# EAGLE library part XCV3200E_FG1156 (library xilinx-xcv)
xcv3200e_fg1156 edit this description Auto generated by make-symbol-device-package-bsdl.ulp Rev. 26 Source: xcv3200e_fg1156.bsd
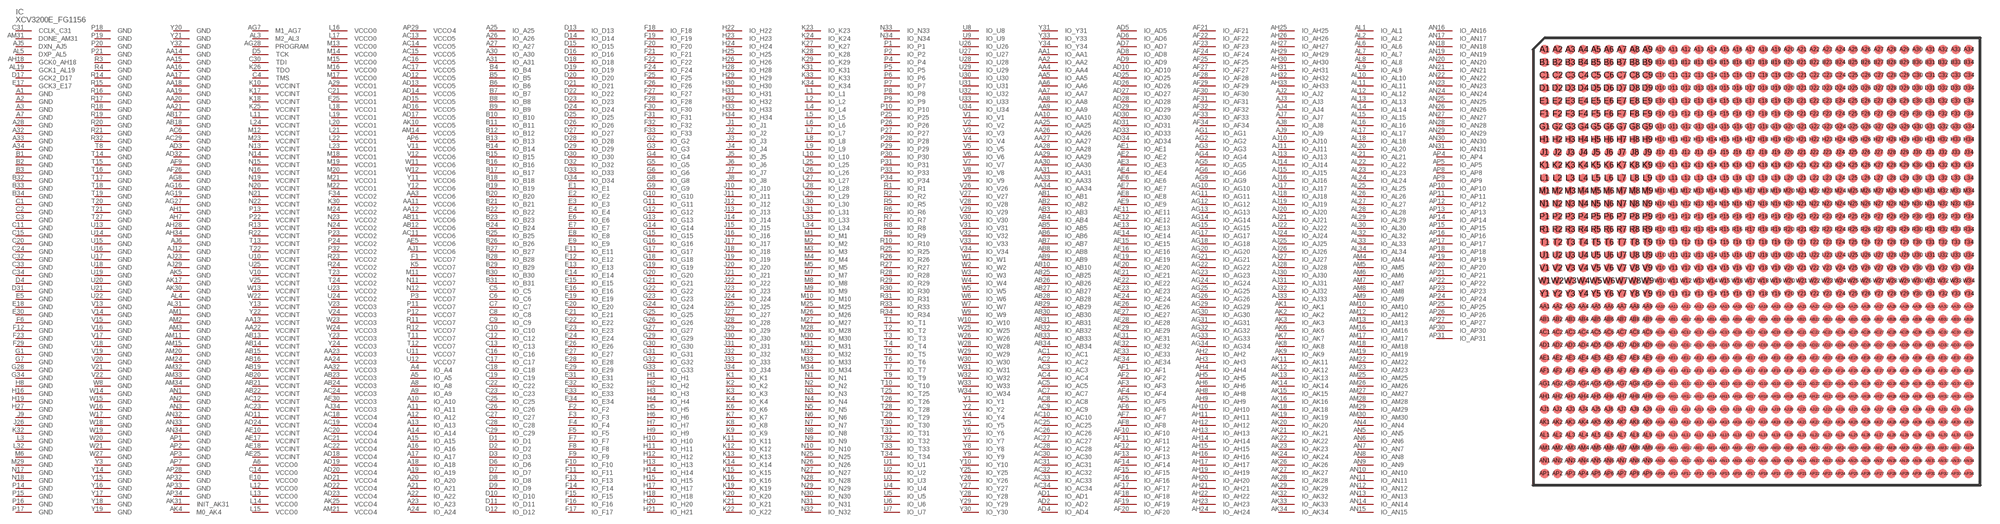
[diagram p141: symbol with the pads of FG1156; footprint FG1156]

Designator prefix IC

## XCV3200E_FG1156  [FG1156]
A1  GND  pwr
A2  GND  pwr
A3  GND  pwr
A4  IO_A4
A5  IO_A5
A6  VCCO0  pwr
A7  GND  pwr
A8  IO_A8
A9  IO_A9
A10  IO_A10
A11  IO_A11
A12  IO_A12
A13  IO_A13
A14  IO_A14
A15  IO_A15
A16  IO_A16
A17  IO_A17
A18  IO_A18
A19  IO_A19
A20  IO_A20
A21  IO_A21
A22  IO_A22
A23  IO_A23
A24  IO_A24
A25  IO_A25
A26  IO_A26
A27  IO_A27
A28  GND  pwr
A29  VCCO1  pwr
A30  IO_A30
A31  IO_A31
A32  GND  pwr
A33  GND  pwr
A34  GND  pwr
AA1  IO_AA1
AA2  IO_AA2
AA3  VCCO6  pwr
AA4  IO_AA4
AA5  IO_AA5
AA6  IO_AA6
AA7  IO_AA7
AA8  IO_AA8
AA9  IO_AA9
AA10  IO_AA10
AA11  VCCO6  pwr
AA12  VCCO6  pwr
AA13  VCCINT  pwr
AA14  GND  pwr
AA15  GND  pwr
AA16  GND  pwr
AA17  GND  pwr
AA18  GND  pwr
AA19  GND  pwr
AA20  GND  pwr
AA21  GND  pwr
AA22  VCCINT  pwr
AA23  VCCO3  pwr
AA24  VCCO3  pwr
AA25  IO_AA25
AA26  IO_AA26
AA27  IO_AA27
AA28  IO_AA28
AA29  IO_AA29
AA30  IO_AA30
AA31  IO_AA31
AA32  VCCO3  pwr
AA33  IO_AA33
AA34  IO_AA34
AB1  IO_AB1
AB2  IO_AB2
AB3  IO_AB3
AB4  IO_AB4
AB5  IO_AB5
AB6  IO_AB6
AB7  IO_AB7
AB8  IO_AB8
AB9  IO_AB9
AB10  IO_AB10
AB11  VCCO6  pwr
AB12  VCCO6  pwr
AB13  VCCINT  pwr
AB14  VCCINT  pwr
AB15  VCCINT  pwr
AB16  VCCINT  pwr
AB17  GND  pwr
AB18  GND  pwr
AB19  VCCINT  pwr
AB20  VCCINT  pwr
AB21  VCCINT  pwr
AB22  VCCINT  pwr
AB23  VCCO3  pwr
AB24  VCCO3  pwr
AB25  IO_AB25
AB26  IO_AB26
AB27  IO_AB27
AB28  IO_AB28
AB29  IO_AB29
AB30  IO_AB30
AB31  IO_AB31
AB32  IO_AB32
AB33  IO_AB33
AB34  IO_AB34
AC1  IO_AC1
AC2  IO_AC2
AC3  IO_AC3
AC4  IO_AC4
AC5  IO_AC5
AC6  GND  pwr
AC7  IO_AC7
AC8  IO_AC8
AC9  IO_AC9
AC10  IO_AC10
AC11  VCCO6  pwr
AC12  VCCINT  pwr
AC13  VCCO5  pwr
AC14  VCCO5  pwr
AC15  VCCO5  pwr
AC16  VCCO5  pwr
AC17  VCCO5  pwr
AC18  VCCO4  pwr
AC19  VCCO4  pwr
AC20  VCCO4  pwr
AC21  VCCO4  pwr
AC22  VCCO4  pwr
AC23  VCCINT  pwr
AC24  VCCO3  pwr
AC25  IO_AC25
AC26  IO_AC26
AC27  IO_AC27
AC28  IO_AC28
AC29  GND  pwr
AC30  IO_AC30
AC31  IO_AC31
AC32  IO_AC32
AC33  IO_AC33
AC34  IO_AC34
AD1  IO_AD1
AD2  IO_AD2
AD3  GND  pwr
AD4  IO_AD4
AD5  IO_AD5
AD6  IO_AD6
AD7  IO_AD7
AD8  IO_AD8
AD9  IO_AD9
AD10  IO_AD10
AD11  VCCINT  pwr
AD12  VCCO5  pwr
AD13  VCCO5  pwr
AD14  VCCO5  pwr
AD15  VCCO5  pwr
AD16  VCCO5  pwr
AD17  VCCO5  pwr
AD18  VCCO4  pwr
AD19  VCCO4  pwr
AD20  VCCO4  pwr
AD21  VCCO4  pwr
AD22  VCCO4  pwr
AD23  VCCO4  pwr
AD24  VCCINT  pwr
AD25  IO_AD25
AD26  IO_AD26
AD27  IO_AD27
AD28  IO_AD28
AD29  IO_AD29
AD30  IO_AD30
AD31  IO_AD31
AD32  GND  pwr
AD33  IO_AD33
AD34  IO_AD34
AE1  IO_AE1
AE2  IO_AE2
AE3  IO_AE3
AE4  IO_AE4
AE5  VCCO6  pwr
AE6  IO_AE6
AE7  IO_AE7
AE8  IO_AE8
AE9  IO_AE9
AE10  VCCINT  pwr
AE11  IO_AE11
AE12  IO_AE12
AE13  IO_AE13
AE14  IO_AE14
AE15  IO_AE15
AE16  IO_AE16
AE17  VCCINT  pwr
AE18  VCCINT  pwr
AE19  IO_AE19
AE20  IO_AE20
AE21  IO_AE21
AE22  IO_AE22
AE23  IO_AE23
AE24  IO_AE24
AE25  VCCINT  pwr
AE26  IO_AE26
AE27  IO_AE27
AE28  IO_AE28
AE29  IO_AE29
AE30  VCCO3  pwr
AE31  IO_AE31
AE32  IO_AE32
AE33  IO_AE33
AE34  IO_AE34
AF1  IO_AF1
AF2  IO_AF2
AF3  IO_AF3
AF4  IO_AF4
AF5  IO_AF5
AF6  IO_AF6
AF7  IO_AF7
AF8  IO_AF8
AF9  GND  pwr
AF10  IO_AF10
AF11  IO_AF11
AF12  IO_AF12
AF13  IO_AF13
AF14  IO_AF14
AF15  IO_AF15
AF16  IO_AF16
AF17  IO_AF17
AF18  IO_AF18
AF19  IO_AF19
AF20  IO_AF20
AF21  IO_AF21
AF22  IO_AF22
AF23  IO_AF23
AF24  IO_AF24
AF25  IO_AF25
AF26  GND  pwr
AF27  IO_AF27
AF28  IO_AF28
AF29  IO_AF29
AF30  IO_AF30
AF31  IO_AF31
AF32  IO_AF32
AF33  IO_AF33
AF34  IO_AF34
AG1  IO_AG1
AG2  IO_AG2
AG3  IO_AG3
AG4  IO_AG4
AG5  IO_AG5
AG6  IO_AG6
AG7  M1_AG7  in
AG8  GND  pwr
AG9  IO_AG9
AG10  IO_AG10
AG11  IO_AG11
AG12  IO_AG12
AG13  IO_AG13
AG14  IO_AG14
AG15  IO_AG15
AG16  GND  pwr
AG17  IO_AG17
AG18  IO_AG18
AG19  GND  pwr
AG20  IO_AG20
AG21  IO_AG21
AG22  IO_AG22
AG23  IO_AG23
AG24  IO_AG24
AG25  IO_AG25
AG26  IO_AG26
AG27  GND  pwr
AG28  PROGRAM  in
AG29  IO_AG29
AG30  IO_AG30
AG31  IO_AG31
AG32  IO_AG32
AG33  IO_AG33
AG34  IO_AG34
AH1  GND  pwr
AH2  IO_AH2
AH3  IO_AH3
AH4  IO_AH4
AH5  IO_AH5
AH6  IO_AH6
AH7  GND  pwr
AH8  IO_AH8
AH9  IO_AH9
AH10  IO_AH10
AH11  IO_AH11
AH12  IO_AH12
AH13  IO_AH13
AH14  IO_AH14
AH15  IO_AH15
AH16  IO_AH16
AH17  IO_AH17
AH18  GCK0_AH18  in
AH19  IO_AH19
AH20  IO_AH20
AH21  IO_AH21
AH22  IO_AH22
AH23  IO_AH23
AH24  IO_AH24
AH25  IO_AH25
AH26  IO_AH26
AH27  IO_AH27
AH28  GND  pwr
AH29  IO_AH29
AH30  IO_AH30
AH31  IO_AH31
AH32  IO_AH32
AH33  IO_AH33
AH34  GND  pwr
AJ1  VCCO6  pwr
AJ2  IO_AJ2
AJ3  IO_AJ3
AJ4  IO_AJ4
AJ5  DXN_AJ5  pas
AJ6  GND  pwr
AJ7  IO_AJ7
AJ8  IO_AJ8
AJ9  IO_AJ9
AJ10  IO_AJ10
AJ11  IO_AJ11
AJ12  GND  pwr
AJ13  IO_AJ13
AJ14  IO_AJ14
AJ15  IO_AJ15
AJ16  IO_AJ16
AJ17  IO_AJ17
AJ18  IO_AJ18
AJ19  IO_AJ19
AJ20  IO_AJ20
AJ21  IO_AJ21
AJ22  IO_AJ22
AJ23  GND  pwr
AJ24  IO_AJ24
AJ25  IO_AJ25
AJ26  IO_AJ26
AJ27  IO_AJ27
AJ28  IO_AJ28
AJ29  GND  pwr
AJ30  IO_AJ30
AJ31  IO_AJ31
AJ32  IO_AJ32
AJ33  IO_AJ33
AJ34  VCCO3  pwr
AK1  IO_AK1
AK2  IO_AK2
AK3  IO_AK3
AK4  M0_AK4  in
AK5  GND  pwr
AK6  IO_AK6
AK7  IO_AK7
AK8  IO_AK8
AK9  IO_AK9
AK10  VCCO5  pwr
AK11  IO_AK11
AK12  IO_AK12
AK13  IO_AK13
AK14  IO_AK14
AK15  IO_AK15
AK16  IO_AK16
AK17  GND  pwr
AK18  IO_AK18
AK19  IO_AK19
AK20  IO_AK20
AK21  IO_AK21
AK22  IO_AK22
AK23  IO_AK23
AK24  IO_AK24
AK25  VCCO4  pwr
AK26  IO_AK26
AK27  IO_AK27
AK28  IO_AK28
AK29  IO_AK29
AK30  GND  pwr
AK31  INIT_AK31
AK32  IO_AK32
AK33  IO_AK33
AK34  IO_AK34
AL1  IO_AL1
AL2  IO_AL2
AL3  M2_AL3  in
AL4  GND  pwr
AL5  DXP_AL5  pas
AL6  IO_AL6
AL7  IO_AL7
AL8  IO_AL8
AL9  IO_AL9
AL10  IO_AL10
AL11  IO_AL11
AL12  IO_AL12
AL13  IO_AL13
AL14  IO_AL14
AL15  IO_AL15
AL16  IO_AL16
AL17  IO_AL17
AL18  IO_AL18
AL19  GCK1_AL19  in
AL20  IO_AL20
AL21  IO_AL21
AL22  IO_AL22
AL23  IO_AL23
AL24  IO_AL24
AL25  IO_AL25
AL26  IO_AL26
AL27  IO_AL27
AL28  IO_AL28
AL29  IO_AL29
AL30  IO_AL30
AL31  GND  pwr
AL32  IO_AL32
AL33  IO_AL33
AL34  IO_AL34
AM1  GND  pwr
AM2  GND  pwr
AM3  GND  pwr
AM4  IO_AM4
AM5  IO_AM5
AM6  IO_AM6
AM7  IO_AM7
AM8  IO_AM8
AM9  IO_AM9
AM10  IO_AM10
AM11  GND  pwr
AM12  IO_AM12
AM13  IO_AM13
AM14  VCCO5  pwr
AM15  GND  pwr
AM16  IO_AM16
AM17  IO_AM17
AM18  IO_AM18
AM19  IO_AM19
AM20  GND  pwr
AM21  VCCO4  pwr
AM22  IO_AM22
AM23  IO_AM23
AM24  GND  pwr
AM25  IO_AM25
AM26  IO_AM26
AM27  IO_AM27
AM28  IO_AM28
AM29  IO_AM29
AM30  IO_AM30
AM31  DONE_AM31
AM32  GND  pwr
AM33  GND  pwr
AM34  GND  pwr
AN1  GND  pwr
AN2  GND  pwr
AN3  GND  pwr
AN4  IO_AN4
AN5  IO_AN5
AN6  IO_AN6
AN7  IO_AN7
AN8  IO_AN8
AN9  IO_AN9
AN10  IO_AN10
AN11  IO_AN11
AN12  IO_AN12
AN13  IO_AN13
AN14  IO_AN14
AN15  IO_AN15
AN16  IO_AN16
AN17  IO_AN17
AN18  IO_AN18
AN19  IO_AN19
AN20  IO_AN20
AN21  IO_AN21
AN22  IO_AN22
AN23  IO_AN23
AN24  IO_AN24
AN25  IO_AN25
AN26  IO_AN26
AN27  IO_AN27
AN28  IO_AN28
AN29  IO_AN29
AN30  IO_AN30
AN31  IO_AN31
AN32  GND  pwr
AN33  GND  pwr
AN34  GND  pwr
AP1  GND  pwr
AP2  GND  pwr
AP3  GND  pwr
AP4  IO_AP4
AP5  IO_AP5
AP6  VCCO5  pwr
AP7  GND  pwr
AP8  IO_AP8
AP9  IO_AP9
AP10  IO_AP10
AP11  IO_AP11
AP12  IO_AP12
AP13  IO_AP13
AP14  IO_AP14
AP15  IO_AP15
AP16  IO_AP16
AP17  IO_AP17
AP18  IO_AP18
AP19  IO_AP19
AP20  IO_AP20
AP21  IO_AP21
AP22  IO_AP22
AP23  IO_AP23
AP24  IO_AP24
AP25  IO_AP25
AP26  IO_AP26
AP27  IO_AP27
AP28  GND  pwr
AP29  VCCO4  pwr
AP30  IO_AP30
AP31  IO_AP31
AP32  GND  pwr
AP33  GND  pwr
AP34  GND  pwr
B1  GND  pwr
B2  GND  pwr
B3  GND  pwr
B4  IO_B4
B5  IO_B5
B6  IO_B6
B7  IO_B7
B8  IO_B8
B9  IO_B9
B10  IO_B10
B11  IO_B11
B12  IO_B12
B13  IO_B13
B14  IO_B14
B15  IO_B15
B16  IO_B16
B17  IO_B17
B18  IO_B18
B19  IO_B19
B20  IO_B20
B21  IO_B21
B22  IO_B22
B23  IO_B23
B24  IO_B24
B25  IO_B25
B26  IO_B26
B27  IO_B27
B28  IO_B28
B29  IO_B29
B30  IO_B30
B31  IO_B31
B32  GND  pwr
B33  GND  pwr
B34  GND  pwr
C1  GND  pwr
C2  GND  pwr
C3  GND  pwr
C4  TMS  in
C5  IO_C5
C6  IO_C6
C7  IO_C7
C8  IO_C8
C9  IO_C9
C10  IO_C10
C11  GND  pwr
C12  IO_C12
C13  IO_C13
C14  VCCO0  pwr
C15  GND  pwr
C16  IO_C16
C17  IO_C17
C18  IO_C18
C19  IO_C19
C20  GND  pwr
C21  VCCO1  pwr
C22  IO_C22
C23  IO_C23
C24  GND  pwr
C25  IO_C25
C26  IO_C26
C27  IO_C27
C28  IO_C28
C29  IO_C29
C30  TDI  in
C31  CCLK_C31
C32  GND  pwr
C33  GND  pwr
C34  GND  pwr
D1  IO_D1
D2  IO_D2
D3  IO_D3
D4  GND  pwr
D5  TCK  in
D6  IO_D6
D7  IO_D7
D8  IO_D8
D9  IO_D9
D10  IO_D10
D11  IO_D11
D12  IO_D12
D13  IO_D13
D14  IO_D14
D15  IO_D15
D16  IO_D16
D17  GCK2_D17  in
D18  IO_D18
D19  IO_D19
D20  IO_D20
D21  IO_D21
D22  IO_D22
D23  IO_D23
D24  IO_D24
D25  IO_D25
D26  IO_D26
D27  IO_D27
D28  IO_D28
D29  IO_D29
D30  IO_D30
D31  GND  pwr
D32  IO_D32
D33  IO_D33
D34  IO_D34
E1  IO_E1
E2  IO_E2
E3  IO_E3
E4  IO_E4
E5  GND  pwr
E6  IO_E6
E7  IO_E7
E8  IO_E8
E9  IO_E9
E10  VCCO0  pwr
E11  IO_E11
E12  IO_E12
E13  IO_E13
E14  IO_E14
E15  IO_E15
E16  IO_E16
E17  GCK3_E17  in
E18  GND  pwr
E19  IO_E19
E20  IO_E20
E21  IO_E21
E22  IO_E22
E23  IO_E23
E24  IO_E24
E25  VCCO1  pwr
E26  IO_E26
E27  IO_E27
E28  IO_E28
E29  IO_E29
E30  GND  pwr
E31  IO_E31
E32  IO_E32
E33  IO_E33
E34  IO_E34
F1  VCCO7  pwr
F2  IO_F2
F3  IO_F3
F4  IO_F4
F5  IO_F5
F6  GND  pwr
F7  IO_F7
F8  IO_F8
F9  IO_F9
F10  IO_F10
F11  IO_F11
F12  GND  pwr
F13  IO_F13
F14  IO_F14
F15  IO_F15
F16  IO_F16
F17  IO_F17
F18  IO_F18
F19  IO_F19
F20  IO_F20
F21  IO_F21
F22  IO_F22
F23  GND  pwr
F24  IO_F24
F25  IO_F25
F26  IO_F26
F27  IO_F27
F28  IO_F28
F29  GND  pwr
F30  IO_F30
F31  IO_F31
F32  IO_F32
F33  IO_F33
F34  VCCO2  pwr
G1  GND  pwr
G2  IO_G2
G3  IO_G3
G4  IO_G4
G5  IO_G5
G6  IO_G6
G7  GND  pwr
G8  IO_G8
G9  IO_G9
G10  IO_G10
G11  IO_G11
G12  IO_G12
G13  IO_G13
G14  IO_G14
G15  IO_G15
G16  IO_G16
G17  IO_G17
G18  IO_G18
G19  IO_G19
G20  IO_G20
G21  IO_G21
G22  IO_G22
G23  IO_G23
G24  IO_G24
G25  IO_G25
G26  IO_G26
G27  IO_G27
G28  GND  pwr
G29  IO_G29
G30  IO_G30
G31  IO_G31
G32  IO_G32
G33  IO_G33
G34  GND  pwr
H1  IO_H1
H2  IO_H2
H3  IO_H3
H4  IO_H4
H5  IO_H5
H6  IO_H6
H7  IO_H7
H8  GND  pwr
H9  IO_H9
H10  IO_H10
H11  IO_H11
H12  IO_H12
H13  IO_H13
H14  IO_H14
H15  IO_H15
H16  GND  pwr
H17  IO_H17
H18  IO_H18
H19  GND  pwr
H20  IO_H20
H21  IO_H21
H22  IO_H22
H23  IO_H23
H24  IO_H24
H25  IO_H25
H26  IO_H26
H27  GND  pwr
H28  IO_H28
H29  IO_H29
H30  IO_H30
H31  IO_H31
H32  IO_H32
H33  IO_H33
H34  IO_H34
J1  IO_J1
J2  IO_J2
J3  IO_J3
J4  IO_J4
J5  IO_J5
J6  IO_J6
J7  IO_J7
J8  IO_J8
J9  GND  pwr
J10  IO_J10
J11  IO_J11
J12  IO_J12
J13  IO_J13
J14  IO_J14
J15  IO_J15
J16  IO_J16
J17  IO_J17
J18  IO_J18
J19  IO_J19
J20  IO_J20
J21  IO_J21
J22  IO_J22
J23  IO_J23
J24  IO_J24
J25  IO_J25
J26  GND  pwr
J27  IO_J27
J28  IO_J28
J29  IO_J29
J30  IO_J30
J31  IO_J31
J32  IO_J32
J33  IO_J33
J34  IO_J34
K1  IO_K1
K2  IO_K2
K3  IO_K3
K4  IO_K4
K5  VCCO7  pwr
K6  IO_K6
K7  IO_K7
K8  IO_K8
K9  IO_K9
K10  VCCINT  pwr
K11  IO_K11
K12  IO_K12
K13  IO_K13
K14  IO_K14
K15  IO_K15
K16  IO_K16
K17  VCCINT  pwr
K18  VCCINT  pwr
K19  IO_K19
K20  IO_K20
K21  IO_K21
K22  IO_K22
K23  IO_K23
K24  IO_K24
K25  VCCINT  pwr
K26  TDO  out
K27  IO_K27
K28  IO_K28
K29  IO_K29
K30  VCCO2  pwr
K31  IO_K31
K32  GND  pwr
K33  IO_K33
K34  IO_K34
L1  IO_L1
L2  IO_L2
L3  GND  pwr
L4  IO_L4
L5  IO_L5
L6  IO_L6
L7  IO_L7
L8  IO_L8
L9  IO_L9
L10  IO_L10
L11  VCCINT  pwr
L12  VCCO0  pwr
L13  VCCO0  pwr
L14  VCCO0  pwr
L15  VCCO0  pwr
L16  VCCO0  pwr
L17  VCCO0  pwr
L18  VCCO1  pwr
L19  VCCO1  pwr
L20  VCCO1  pwr
L21  VCCO1  pwr
L22  VCCO1  pwr
L23  VCCO1  pwr
L24  VCCINT  pwr
L25  IO_L25
L26  IO_L26
L27  IO_L27
L28  IO_L28
L29  IO_L29
L30  IO_L30
L31  IO_L31
L32  GND  pwr
L33  IO_L33
L34  IO_L34
M1  IO_M1
M2  IO_M2
M3  IO_M3
M4  IO_M4
M5  IO_M5
M6  GND  pwr
M7  IO_M7
M8  IO_M8
M9  IO_M9
M10  IO_M10
M11  VCCO7  pwr
M12  VCCINT  pwr
M13  VCCO0  pwr
M14  VCCO0  pwr
M15  VCCO0  pwr
M16  VCCO0  pwr
M17  VCCO0  pwr
M18  VCCO1  pwr
M19  VCCO1  pwr
M20  VCCO1  pwr
M21  VCCO1  pwr
M22  VCCO1  pwr
M23  VCCINT  pwr
M24  VCCO2  pwr
M25  IO_M25
M26  IO_M26
M27  IO_M27
M28  IO_M28
M29  GND  pwr
M30  IO_M30
M31  IO_M31
M32  IO_M32
M33  IO_M33
M34  IO_M34
N1  IO_N1
N2  IO_N2
N3  IO_N3
N4  IO_N4
N5  IO_N5
N6  IO_N6
N7  IO_N7
N8  IO_N8
N9  IO_N9
N10  IO_N10
N11  VCCO7  pwr
N12  VCCO7  pwr
N13  VCCINT  pwr
N14  VCCINT  pwr
N15  VCCINT  pwr
N16  VCCINT  pwr
N17  GND  pwr
N18  GND  pwr
N19  VCCINT  pwr
N20  VCCINT  pwr
N21  VCCINT  pwr
N22  VCCINT  pwr
N23  VCCO2  pwr
N24  VCCO2  pwr
N25  IO_N25
N26  IO_N26
N27  IO_N27
N28  IO_N28
N29  IO_N29
N30  IO_N30
N31  IO_N31
N32  IO_N32
N33  IO_N33
N34  IO_N34
P1  IO_P1
P2  IO_P2
P3  VCCO7  pwr
P4  IO_P4
P5  IO_P5
P6  IO_P6
P7  IO_P7
P8  IO_P8
P9  IO_P9
P10  IO_P10
P11  VCCO7  pwr
P12  VCCO7  pwr
P13  VCCINT  pwr
P14  GND  pwr
P15  GND  pwr
P16  GND  pwr
P17  GND  pwr
P18  GND  pwr
P19  GND  pwr
P20  GND  pwr
P21  GND  pwr
P22  VCCINT  pwr
P23  VCCO2  pwr
P24  VCCO2  pwr
P25  IO_P25
P26  IO_P26
P27  IO_P27
P28  IO_P28
P29  IO_P29
P30  IO_P30
P31  IO_P31
P32  VCCO2  pwr
P33  IO_P33
P34  IO_P34
R1  IO_R1
R2  IO_R2
R3  GND  pwr
R4  GND  pwr
R5  IO_R5
R6  IO_R6
R7  IO_R7
R8  IO_R8
R9  IO_R9
R10  IO_R10
R11  VCCO7  pwr
R12  VCCO7  pwr
R13  VCCINT  pwr
R14  GND  pwr
R15  GND  pwr
R16  GND  pwr
R17  GND  pwr
R18  GND  pwr
R19  GND  pwr
R20  GND  pwr
R21  GND  pwr
R22  VCCINT  pwr
R23  VCCO2  pwr
R24  VCCO2  pwr
R25  IO_R25
R26  IO_R26
R27  IO_R27
R28  IO_R28
R29  IO_R29
R30  IO_R30
R31  IO_R31
R32  GND  pwr
R33  IO_R33
R34  IO_R34
T1  IO_T1
T2  IO_T2
T3  IO_T3
T4  IO_T4
T5  IO_T5
T6  IO_T6
T7  IO_T7
T8  GND  pwr
T9  IO_T9
T10  IO_T10
T11  VCCO7  pwr
T12  VCCO7  pwr
T13  VCCINT  pwr
T14  GND  pwr
T15  GND  pwr
T16  GND  pwr
T17  GND  pwr
T18  GND  pwr
T19  GND  pwr
T20  GND  pwr
T21  GND  pwr
T22  VCCINT  pwr
T23  VCCO2  pwr
T24  VCCO2  pwr
T25  IO_T25
T26  IO_T26
T27  GND  pwr
T28  IO_T28
T29  IO_T29
T30  IO_T30
T31  IO_T31
T32  IO_T32
T33  IO_T33
T34  IO_T34
U1  IO_U1
U2  IO_U2
U3  IO_U3
U4  IO_U4
U5  IO_U5
U6  IO_U6
U7  IO_U7
U8  IO_U8
U9  IO_U9
U10  VCCINT  pwr
U11  VCCO7  pwr
U12  VCCO7  pwr
U13  GND  pwr
U14  GND  pwr
U15  GND  pwr
U16  GND  pwr
U17  GND  pwr
U18  GND  pwr
U19  GND  pwr
U20  GND  pwr
U21  GND  pwr
U22  GND  pwr
U23  VCCO2  pwr
U24  VCCO2  pwr
U25  VCCINT  pwr
U26  IO_U26
U27  IO_U27
U28  IO_U28
U29  IO_U29
U30  IO_U30
U31  IO_U31
U32  IO_U32
U33  IO_U33
U34  IO_U34
V1  IO_V1
V2  IO_V2
V3  IO_V3
V4  IO_V4
V5  IO_V5
V6  IO_V6
V7  IO_V7
V8  IO_V8
V9  IO_V9
V10  VCCINT  pwr
V11  VCCO6  pwr
V12  VCCO6  pwr
V13  GND  pwr
V14  GND  pwr
V15  GND  pwr
V16  GND  pwr
V17  GND  pwr
V18  GND  pwr
V19  GND  pwr
V20  GND  pwr
V21  GND  pwr
V22  GND  pwr
V23  VCCO3  pwr
V24  VCCO3  pwr
V25  VCCINT  pwr
V26  IO_V26
V27  IO_V27
V28  IO_V28
V29  IO_V29
V30  IO_V30
V31  IO_V31
V32  IO_V32
V33  IO_V33
V34  IO_V34
W1  IO_W1
W2  IO_W2
W3  IO_W3
W4  IO_W4
W5  IO_W5
W6  IO_W6
W7  IO_W7
W8  GND  pwr
W9  IO_W9
W10  IO_W10
W11  VCCO6  pwr
W12  VCCO6  pwr
W13  VCCINT  pwr
W14  GND  pwr
W15  GND  pwr
W16  GND  pwr
W17  GND  pwr
W18  GND  pwr
W19  GND  pwr
W20  GND  pwr
W21  GND  pwr
W22  VCCINT  pwr
W23  VCCO3  pwr
W24  VCCO3  pwr
W25  IO_W25
W26  IO_W26
W27  GND  pwr
W28  IO_W28
W29  IO_W29
W30  IO_W30
W31  IO_W31
W32  IO_W32
W33  IO_W33
W34  IO_W34
Y1  IO_Y1
Y2  IO_Y2
Y3  GND  pwr
Y4  IO_Y4
Y5  IO_Y5
Y6  IO_Y6
Y7  IO_Y7
Y8  IO_Y8
Y9  IO_Y9
Y10  IO_Y10
Y11  VCCO6  pwr
Y12  VCCO6  pwr
Y13  VCCINT  pwr
Y14  GND  pwr
Y15  GND  pwr
Y16  GND  pwr
Y17  GND  pwr
Y18  GND  pwr
Y19  GND  pwr
Y20  GND  pwr
Y21  GND  pwr
Y22  VCCINT  pwr
Y23  VCCO3  pwr
Y24  VCCO3  pwr
Y25  IO_Y25
Y26  IO_Y26
Y27  IO_Y27
Y28  IO_Y28
Y29  IO_Y29
Y30  IO_Y30
Y31  IO_Y31
Y32  GND  pwr
Y33  IO_Y33
Y34  IO_Y34

## Footprint FG1156 (pad centres in mm)
xcv1000e_fg1156_1532 edit this description Auto generated by make-symbol-device-package-bsdl.ulp Rev. 26 Source: xcv1000e_fg1156_1532.bsd
smd 0.7 x 0.7: A1 -16.5,16.5; A2 -15.5,16.5; A3 -14.5,16.5; A4 -13.5,16.5; A5 -12.5,16.5; A6 -11.5,16.5; A7 -10.5,16.5; A8 -9.5,16.5; A9 -8.5,16.5; A10 -7.5,16.5; A11 -6.5,16.5; A12 -5.5,16.5; A13 -4.5,16.5; A14 -3.5,16.5; A15 -2.5,16.5; A16 -1.5,16.5; A17 -0.5,16.5; A18 0.5,16.5; A19 1.5,16.5; A20 2.5,16.5; A21 3.5,16.5; A22 4.5,16.5; A23 5.5,16.5; A24 6.5,16.5; A25 7.5,16.5; A26 8.5,16.5; A27 9.5,16.5; A28 10.5,16.5; A29 11.5,16.5; A30 12.5,16.5; A31 13.5,16.5; A32 14.5,16.5; A33 15.5,16.5; A34 16.5,16.5; AA1 -16.5,-3.5; AA2 -15.5,-3.5; AA3 -14.5,-3.5; AA4 -13.5,-3.5; AA5 -12.5,-3.5; AA6 -11.5,-3.5; AA7 -10.5,-3.5; AA8 -9.5,-3.5; AA9 -8.5,-3.5; AA10 -7.5,-3.5; AA11 -6.5,-3.5; AA12 -5.5,-3.5; AA13 -4.5,-3.5; AA14 -3.5,-3.5; AA15 -2.5,-3.5; AA16 -1.5,-3.5; AA17 -0.5,-3.5; AA18 0.5,-3.5; AA19 1.5,-3.5; AA20 2.5,-3.5; AA21 3.5,-3.5; AA22 4.5,-3.5; AA23 5.5,-3.5; AA24 6.5,-3.5; AA25 7.5,-3.5; AA26 8.5,-3.5; AA27 9.5,-3.5; AA28 10.5,-3.5; AA29 11.5,-3.5; AA30 12.5,-3.5; AA31 13.5,-3.5; AA32 14.5,-3.5; AA33 15.5,-3.5; AA34 16.5,-3.5; AB1 -16.5,-4.5; AB2 -15.5,-4.5; AB3 -14.5,-4.5; AB4 -13.5,-4.5; AB5 -12.5,-4.5; AB6 -11.5,-4.5; AB7 -10.5,-4.5; AB8 -9.5,-4.5; AB9 -8.5,-4.5; AB10 -7.5,-4.5; AB11 -6.5,-4.5; AB12 -5.5,-4.5; AB13 -4.5,-4.5; AB14 -3.5,-4.5; AB15 -2.5,-4.5; AB16 -1.5,-4.5; AB17 -0.5,-4.5; AB18 0.5,-4.5; AB19 1.5,-4.5; AB20 2.5,-4.5; AB21 3.5,-4.5; AB22 4.5,-4.5; AB23 5.5,-4.5; AB24 6.5,-4.5; AB25 7.5,-4.5; AB26 8.5,-4.5; AB27 9.5,-4.5; AB28 10.5,-4.5; AB29 11.5,-4.5; AB30 12.5,-4.5; AB31 13.5,-4.5; AB32 14.5,-4.5; AB33 15.5,-4.5; AB34 16.5,-4.5; AC1 -16.5,-5.5; AC2 -15.5,-5.5; AC3 -14.5,-5.5; AC4 -13.5,-5.5; AC5 -12.5,-5.5; AC6 -11.5,-5.5; AC7 -10.5,-5.5; AC8 -9.5,-5.5; AC9 -8.5,-5.5; AC10 -7.5,-5.5; AC11 -6.5,-5.5; AC12 -5.5,-5.5; AC13 -4.5,-5.5; AC14 -3.5,-5.5; AC15 -2.5,-5.5; AC16 -1.5,-5.5; AC17 -0.5,-5.5; AC18 0.5,-5.5; AC19 1.5,-5.5; AC20 2.5,-5.5; AC21 3.5,-5.5; AC22 4.5,-5.5; AC23 5.5,-5.5; AC24 6.5,-5.5; AC25 7.5,-5.5; AC26 8.5,-5.5; AC27 9.5,-5.5; AC28 10.5,-5.5; AC29 11.5,-5.5; AC30 12.5,-5.5; AC31 13.5,-5.5; AC32 14.5,-5.5; AC33 15.5,-5.5; AC34 16.5,-5.5; AD1 -16.5,-6.5; AD2 -15.5,-6.5; AD3 -14.5,-6.5; AD4 -13.5,-6.5; AD5 -12.5,-6.5; AD6 -11.5,-6.5; AD7 -10.5,-6.5; AD8 -9.5,-6.5; AD9 -8.5,-6.5; AD10 -7.5,-6.5; AD11 -6.5,-6.5; AD12 -5.5,-6.5; AD13 -4.5,-6.5; AD14 -3.5,-6.5; AD15 -2.5,-6.5; AD16 -1.5,-6.5; AD17 -0.5,-6.5; AD18 0.5,-6.5; AD19 1.5,-6.5; AD20 2.5,-6.5; AD21 3.5,-6.5; AD22 4.5,-6.5; AD23 5.5,-6.5; AD24 6.5,-6.5; AD25 7.5,-6.5; AD26 8.5,-6.5; AD27 9.5,-6.5; AD28 10.5,-6.5; AD29 11.5,-6.5; AD30 12.5,-6.5; AD31 13.5,-6.5; AD32 14.5,-6.5; AD33 15.5,-6.5; AD34 16.5,-6.5; AE1 -16.5,-7.5; AE2 -15.5,-7.5; AE3 -14.5,-7.5; AE4 -13.5,-7.5; AE5 -12.5,-7.5; AE6 -11.5,-7.5; AE7 -10.5,-7.5; AE8 -9.5,-7.5; AE9 -8.5,-7.5; AE10 -7.5,-7.5; AE11 -6.5,-7.5; AE12 -5.5,-7.5; AE13 -4.5,-7.5; AE14 -3.5,-7.5; AE15 -2.5,-7.5; AE16 -1.5,-7.5; AE17 -0.5,-7.5; AE18 0.5,-7.5; AE19 1.5,-7.5; AE20 2.5,-7.5; AE21 3.5,-7.5; AE22 4.5,-7.5; AE23 5.5,-7.5; AE24 6.5,-7.5; AE25 7.5,-7.5; AE26 8.5,-7.5; AE27 9.5,-7.5; AE28 10.5,-7.5; AE29 11.5,-7.5; AE30 12.5,-7.5; AE31 13.5,-7.5; AE32 14.5,-7.5; AE33 15.5,-7.5; AE34 16.5,-7.5; AF1 -16.5,-8.5; AF2 -15.5,-8.5; AF3 -14.5,-8.5; AF4 -13.5,-8.5; AF5 -12.5,-8.5; AF6 -11.5,-8.5; AF7 -10.5,-8.5; AF8 -9.5,-8.5; AF9 -8.5,-8.5; AF10 -7.5,-8.5; AF11 -6.5,-8.5; AF12 -5.5,-8.5; AF13 -4.5,-8.5; AF14 -3.5,-8.5; AF15 -2.5,-8.5; AF16 -1.5,-8.5; AF17 -0.5,-8.5; AF18 0.5,-8.5; AF19 1.5,-8.5; AF20 2.5,-8.5; AF21 3.5,-8.5; AF22 4.5,-8.5; AF23 5.5,-8.5; AF24 6.5,-8.5; AF25 7.5,-8.5; AF26 8.5,-8.5; AF27 9.5,-8.5; AF28 10.5,-8.5; AF29 11.5,-8.5; AF30 12.5,-8.5; AF31 13.5,-8.5; AF32 14.5,-8.5; AF33 15.5,-8.5; AF34 16.5,-8.5; AG1 -16.5,-9.5; AG2 -15.5,-9.5; AG3 -14.5,-9.5; AG4 -13.5,-9.5; AG5 -12.5,-9.5; AG6 -11.5,-9.5; AG7 -10.5,-9.5; AG8 -9.5,-9.5; AG9 -8.5,-9.5; AG10 -7.5,-9.5; AG11 -6.5,-9.5; AG12 -5.5,-9.5; AG13 -4.5,-9.5; AG14 -3.5,-9.5; AG15 -2.5,-9.5; AG16 -1.5,-9.5; AG17 -0.5,-9.5; AG18 0.5,-9.5; AG19 1.5,-9.5; AG20 2.5,-9.5; AG21 3.5,-9.5; AG22 4.5,-9.5; AG23 5.5,-9.5; AG24 6.5,-9.5; AG25 7.5,-9.5; AG26 8.5,-9.5; AG27 9.5,-9.5; AG28 10.5,-9.5; AG29 11.5,-9.5; AG30 12.5,-9.5; AG31 13.5,-9.5; AG32 14.5,-9.5; AG33 15.5,-9.5; AG34 16.5,-9.5; AH1 -16.5,-10.5; AH2 -15.5,-10.5; AH3 -14.5,-10.5; AH4 -13.5,-10.5; AH5 -12.5,-10.5; AH6 -11.5,-10.5; AH7 -10.5,-10.5; AH8 -9.5,-10.5; AH9 -8.5,-10.5; AH10 -7.5,-10.5; AH11 -6.5,-10.5; AH12 -5.5,-10.5; AH13 -4.5,-10.5; AH14 -3.5,-10.5; AH15 -2.5,-10.5; AH16 -1.5,-10.5; AH17 -0.5,-10.5; AH18 0.5,-10.5; AH19 1.5,-10.5; AH20 2.5,-10.5; AH21 3.5,-10.5; AH22 4.5,-10.5; AH23 5.5,-10.5; AH24 6.5,-10.5; AH25 7.5,-10.5; AH26 8.5,-10.5; AH27 9.5,-10.5; AH28 10.5,-10.5; AH29 11.5,-10.5; AH30 12.5,-10.5; AH31 13.5,-10.5; AH32 14.5,-10.5; AH33 15.5,-10.5; AH34 16.5,-10.5; AJ1 -16.5,-11.5; AJ2 -15.5,-11.5; AJ3 -14.5,-11.5; AJ4 -13.5,-11.5; AJ5 -12.5,-11.5; AJ6 -11.5,-11.5; AJ7 -10.5,-11.5; AJ8 -9.5,-11.5; AJ9 -8.5,-11.5; AJ10 -7.5,-11.5; AJ11 -6.5,-11.5; AJ12 -5.5,-11.5; AJ13 -4.5,-11.5; AJ14 -3.5,-11.5; AJ15 -2.5,-11.5; AJ16 -1.5,-11.5; AJ17 -0.5,-11.5; AJ18 0.5,-11.5; AJ19 1.5,-11.5; AJ20 2.5,-11.5; AJ21 3.5,-11.5; AJ22 4.5,-11.5; AJ23 5.5,-11.5; AJ24 6.5,-11.5; AJ25 7.5,-11.5; AJ26 8.5,-11.5; AJ27 9.5,-11.5; AJ28 10.5,-11.5; AJ29 11.5,-11.5; AJ30 12.5,-11.5; AJ31 13.5,-11.5; AJ32 14.5,-11.5; AJ33 15.5,-11.5; AJ34 16.5,-11.5; AK1 -16.5,-12.5; AK2 -15.5,-12.5; AK3 -14.5,-12.5; AK4 -13.5,-12.5; AK5 -12.5,-12.5; AK6 -11.5,-12.5; AK7 -10.5,-12.5; AK8 -9.5,-12.5; AK9 -8.5,-12.5; AK10 -7.5,-12.5; AK11 -6.5,-12.5; AK12 -5.5,-12.5; AK13 -4.5,-12.5; AK14 -3.5,-12.5; AK15 -2.5,-12.5; AK16 -1.5,-12.5; AK17 -0.5,-12.5; AK18 0.5,-12.5; AK19 1.5,-12.5; AK20 2.5,-12.5; AK21 3.5,-12.5; AK22 4.5,-12.5; AK23 5.5,-12.5; AK24 6.5,-12.5; AK25 7.5,-12.5; AK26 8.5,-12.5; AK27 9.5,-12.5; AK28 10.5,-12.5; AK29 11.5,-12.5; AK30 12.5,-12.5; AK31 13.5,-12.5; AK32 14.5,-12.5; AK33 15.5,-12.5; AK34 16.5,-12.5; AL1 -16.5,-13.5; AL2 -15.5,-13.5; AL3 -14.5,-13.5; AL4 -13.5,-13.5; AL5 -12.5,-13.5; AL6 -11.5,-13.5; AL7 -10.5,-13.5; AL8 -9.5,-13.5; AL9 -8.5,-13.5; AL10 -7.5,-13.5; AL11 -6.5,-13.5; AL12 -5.5,-13.5; AL13 -4.5,-13.5; AL14 -3.5,-13.5; AL15 -2.5,-13.5; AL16 -1.5,-13.5; AL17 -0.5,-13.5; AL18 0.5,-13.5; AL19 1.5,-13.5; AL20 2.5,-13.5; AL21 3.5,-13.5; AL22 4.5,-13.5; AL23 5.5,-13.5; AL24 6.5,-13.5; AL25 7.5,-13.5; AL26 8.5,-13.5; AL27 9.5,-13.5; AL28 10.5,-13.5; AL29 11.5,-13.5; AL30 12.5,-13.5; AL31 13.5,-13.5; AL32 14.5,-13.5; AL33 15.5,-13.5; AL34 16.5,-13.5; AM1 -16.5,-14.5; AM2 -15.5,-14.5; AM3 -14.5,-14.5; AM4 -13.5,-14.5; AM5 -12.5,-14.5; AM6 -11.5,-14.5; AM7 -10.5,-14.5; AM8 -9.5,-14.5; AM9 -8.5,-14.5; AM10 -7.5,-14.5; AM11 -6.5,-14.5; AM12 -5.5,-14.5; AM13 -4.5,-14.5; AM14 -3.5,-14.5; AM15 -2.5,-14.5; AM16 -1.5,-14.5; AM17 -0.5,-14.5; AM18 0.5,-14.5; AM19 1.5,-14.5; AM20 2.5,-14.5; AM21 3.5,-14.5; AM22 4.5,-14.5; AM23 5.5,-14.5; AM24 6.5,-14.5; AM25 7.5,-14.5; AM26 8.5,-14.5; AM27 9.5,-14.5; AM28 10.5,-14.5; AM29 11.5,-14.5; AM30 12.5,-14.5; AM31 13.5,-14.5; AM32 14.5,-14.5; AM33 15.5,-14.5; AM34 16.5,-14.5; AN1 -16.5,-15.5; AN2 -15.5,-15.5; AN3 -14.5,-15.5; AN4 -13.5,-15.5; AN5 -12.5,-15.5; AN6 -11.5,-15.5; AN7 -10.5,-15.5; AN8 -9.5,-15.5; AN9 -8.5,-15.5; AN10 -7.5,-15.5; AN11 -6.5,-15.5; AN12 -5.5,-15.5; AN13 -4.5,-15.5; AN14 -3.5,-15.5; AN15 -2.5,-15.5; AN16 -1.5,-15.5; AN17 -0.5,-15.5; AN18 0.5,-15.5; AN19 1.5,-15.5; AN20 2.5,-15.5; AN21 3.5,-15.5; AN22 4.5,-15.5; AN23 5.5,-15.5; AN24 6.5,-15.5; AN25 7.5,-15.5; AN26 8.5,-15.5; AN27 9.5,-15.5; AN28 10.5,-15.5; AN29 11.5,-15.5; AN30 12.5,-15.5; AN31 13.5,-15.5; AN32 14.5,-15.5; AN33 15.5,-15.5; AN34 16.5,-15.5; AP1 -16.5,-16.5; AP2 -15.5,-16.5; AP3 -14.5,-16.5; AP4 -13.5,-16.5; AP5 -12.5,-16.5; AP6 -11.5,-16.5; AP7 -10.5,-16.5; AP8 -9.5,-16.5; AP9 -8.5,-16.5; AP10 -7.5,-16.5; AP11 -6.5,-16.5; AP12 -5.5,-16.5; AP13 -4.5,-16.5; AP14 -3.5,-16.5; AP15 -2.5,-16.5; AP16 -1.5,-16.5; AP17 -0.5,-16.5; AP18 0.5,-16.5; AP19 1.5,-16.5; AP20 2.5,-16.5; AP21 3.5,-16.5; AP22 4.5,-16.5; AP23 5.5,-16.5; AP24 6.5,-16.5; AP25 7.5,-16.5; AP26 8.5,-16.5; AP27 9.5,-16.5; AP28 10.5,-16.5; AP29 11.5,-16.5; AP30 12.5,-16.5; AP31 13.5,-16.5; AP32 14.5,-16.5; AP33 15.5,-16.5; AP34 16.5,-16.5; B1 -16.5,15.5; B2 -15.5,15.5; B3 -14.5,15.5; B4 -13.5,15.5; B5 -12.5,15.5; B6 -11.5,15.5; B7 -10.5,15.5; B8 -9.5,15.5; B9 -8.5,15.5; B10 -7.5,15.5; B11 -6.5,15.5; B12 -5.5,15.5; B13 -4.5,15.5; B14 -3.5,15.5; B15 -2.5,15.5; B16 -1.5,15.5; B17 -0.5,15.5; B18 0.5,15.5; B19 1.5,15.5; B20 2.5,15.5; B21 3.5,15.5; B22 4.5,15.5; B23 5.5,15.5; B24 6.5,15.5; B25 7.5,15.5; B26 8.5,15.5; B27 9.5,15.5; B28 10.5,15.5; B29 11.5,15.5; B30 12.5,15.5; B31 13.5,15.5; B32 14.5,15.5; B33 15.5,15.5; B34 16.5,15.5; C1 -16.5,14.5; C2 -15.5,14.5; C3 -14.5,14.5; C4 -13.5,14.5; C5 -12.5,14.5; C6 -11.5,14.5; C7 -10.5,14.5; C8 -9.5,14.5; C9 -8.5,14.5; C10 -7.5,14.5; C11 -6.5,14.5; C12 -5.5,14.5; C13 -4.5,14.5; C14 -3.5,14.5; C15 -2.5,14.5; C16 -1.5,14.5; C17 -0.5,14.5; C18 0.5,14.5; C19 1.5,14.5; C20 2.5,14.5; C21 3.5,14.5; C22 4.5,14.5; C23 5.5,14.5; C24 6.5,14.5; C25 7.5,14.5; C26 8.5,14.5; C27 9.5,14.5; C28 10.5,14.5; C29 11.5,14.5; C30 12.5,14.5; C31 13.5,14.5; C32 14.5,14.5; C33 15.5,14.5; C34 16.5,14.5; D1 -16.5,13.5; D2 -15.5,13.5; D3 -14.5,13.5; D4 -13.5,13.5; D5 -12.5,13.5; D6 -11.5,13.5; D7 -10.5,13.5; D8 -9.5,13.5; D9 -8.5,13.5; D10 -7.5,13.5; D11 -6.5,13.5; D12 -5.5,13.5; D13 -4.5,13.5; D14 -3.5,13.5; D15 -2.5,13.5; D16 -1.5,13.5; D17 -0.5,13.5; D18 0.5,13.5; D19 1.5,13.5; D20 2.5,13.5; D21 3.5,13.5; D22 4.5,13.5; D23 5.5,13.5; D24 6.5,13.5; D25 7.5,13.5; D26 8.5,13.5; D27 9.5,13.5; D28 10.5,13.5; D29 11.5,13.5; D30 12.5,13.5; D31 13.5,13.5; D32 14.5,13.5; D33 15.5,13.5; D34 16.5,13.5; E1 -16.5,12.5; E2 -15.5,12.5; E3 -14.5,12.5; E4 -13.5,12.5; E5 -12.5,12.5; E6 -11.5,12.5; E7 -10.5,12.5; E8 -9.5,12.5; E9 -8.5,12.5; E10 -7.5,12.5; E11 -6.5,12.5; E12 -5.5,12.5; E13 -4.5,12.5; E14 -3.5,12.5; E15 -2.5,12.5; E16 -1.5,12.5; E17 -0.5,12.5; E18 0.5,12.5; E19 1.5,12.5; E20 2.5,12.5; E21 3.5,12.5; E22 4.5,12.5; E23 5.5,12.5; E24 6.5,12.5; E25 7.5,12.5; E26 8.5,12.5; E27 9.5,12.5; E28 10.5,12.5; E29 11.5,12.5; E30 12.5,12.5; E31 13.5,12.5; E32 14.5,12.5; E33 15.5,12.5; E34 16.5,12.5; F1 -16.5,11.5; F2 -15.5,11.5; F3 -14.5,11.5; F4 -13.5,11.5; F5 -12.5,11.5; F6 -11.5,11.5; F7 -10.5,11.5; F8 -9.5,11.5; F9 -8.5,11.5; F10 -7.5,11.5; F11 -6.5,11.5; F12 -5.5,11.5; F13 -4.5,11.5; F14 -3.5,11.5; F15 -2.5,11.5; F16 -1.5,11.5; F17 -0.5,11.5; F18 0.5,11.5; F19 1.5,11.5; F20 2.5,11.5; F21 3.5,11.5; F22 4.5,11.5; F23 5.5,11.5; F24 6.5,11.5; F25 7.5,11.5; F26 8.5,11.5; F27 9.5,11.5; F28 10.5,11.5; F29 11.5,11.5; F30 12.5,11.5; F31 13.5,11.5; F32 14.5,11.5; F33 15.5,11.5; F34 16.5,11.5; G1 -16.5,10.5; G2 -15.5,10.5; G3 -14.5,10.5; G4 -13.5,10.5; G5 -12.5,10.5; G6 -11.5,10.5; G7 -10.5,10.5; G8 -9.5,10.5; G9 -8.5,10.5; G10 -7.5,10.5; G11 -6.5,10.5; G12 -5.5,10.5; G13 -4.5,10.5; G14 -3.5,10.5; G15 -2.5,10.5; G16 -1.5,10.5; G17 -0.5,10.5; G18 0.5,10.5; G19 1.5,10.5; G20 2.5,10.5; G21 3.5,10.5; G22 4.5,10.5; G23 5.5,10.5; G24 6.5,10.5; G25 7.5,10.5; G26 8.5,10.5; G27 9.5,10.5; G28 10.5,10.5; G29 11.5,10.5; G30 12.5,10.5; G31 13.5,10.5; G32 14.5,10.5; G33 15.5,10.5; G34 16.5,10.5; H1 -16.5,9.5; H2 -15.5,9.5; H3 -14.5,9.5; H4 -13.5,9.5; H5 -12.5,9.5; H6 -11.5,9.5; H7 -10.5,9.5; H8 -9.5,9.5; H9 -8.5,9.5; H10 -7.5,9.5; H11 -6.5,9.5; H12 -5.5,9.5; H13 -4.5,9.5; H14 -3.5,9.5; H15 -2.5,9.5; H16 -1.5,9.5; H17 -0.5,9.5; H18 0.5,9.5; H19 1.5,9.5; H20 2.5,9.5; H21 3.5,9.5; H22 4.5,9.5; H23 5.5,9.5; H24 6.5,9.5; H25 7.5,9.5; H26 8.5,9.5; H27 9.5,9.5; H28 10.5,9.5; H29 11.5,9.5; H30 12.5,9.5; H31 13.5,9.5; H32 14.5,9.5; H33 15.5,9.5; H34 16.5,9.5; J1 -16.5,8.5; J2 -15.5,8.5; J3 -14.5,8.5; J4 -13.5,8.5; J5 -12.5,8.5; J6 -11.5,8.5; J7 -10.5,8.5; J8 -9.5,8.5; J9 -8.5,8.5; J10 -7.5,8.5; J11 -6.5,8.5; J12 -5.5,8.5; J13 -4.5,8.5; J14 -3.5,8.5; J15 -2.5,8.5; J16 -1.5,8.5; J17 -0.5,8.5; J18 0.5,8.5; J19 1.5,8.5; J20 2.5,8.5; J21 3.5,8.5; J22 4.5,8.5; J23 5.5,8.5; J24 6.5,8.5; J25 7.5,8.5; J26 8.5,8.5; J27 9.5,8.5; J28 10.5,8.5; J29 11.5,8.5; J30 12.5,8.5; J31 13.5,8.5; J32 14.5,8.5; J33 15.5,8.5; J34 16.5,8.5; K1 -16.5,7.5; K2 -15.5,7.5; K3 -14.5,7.5; K4 -13.5,7.5; K5 -12.5,7.5; K6 -11.5,7.5; K7 -10.5,7.5; K8 -9.5,7.5; K9 -8.5,7.5; K10 -7.5,7.5; K11 -6.5,7.5; K12 -5.5,7.5; K13 -4.5,7.5; K14 -3.5,7.5; K15 -2.5,7.5; K16 -1.5,7.5; K17 -0.5,7.5; K18 0.5,7.5; K19 1.5,7.5; K20 2.5,7.5; K21 3.5,7.5; K22 4.5,7.5; K23 5.5,7.5; K24 6.5,7.5; K25 7.5,7.5; K26 8.5,7.5; K27 9.5,7.5; K28 10.5,7.5; K29 11.5,7.5; K30 12.5,7.5; K31 13.5,7.5; K32 14.5,7.5; K33 15.5,7.5; K34 16.5,7.5; L1 -16.5,6.5; L2 -15.5,6.5; L3 -14.5,6.5; L4 -13.5,6.5; L5 -12.5,6.5; L6 -11.5,6.5; L7 -10.5,6.5; L8 -9.5,6.5; L9 -8.5,6.5; L10 -7.5,6.5; L11 -6.5,6.5; L12 -5.5,6.5; L13 -4.5,6.5; L14 -3.5,6.5; L15 -2.5,6.5; L16 -1.5,6.5; L17 -0.5,6.5; L18 0.5,6.5; L19 1.5,6.5; L20 2.5,6.5; L21 3.5,6.5; L22 4.5,6.5; L23 5.5,6.5; L24 6.5,6.5; L25 7.5,6.5; L26 8.5,6.5; L27 9.5,6.5; L28 10.5,6.5; L29 11.5,6.5; L30 12.5,6.5; L31 13.5,6.5; L32 14.5,6.5; L33 15.5,6.5; L34 16.5,6.5; M1 -16.5,5.5; M2 -15.5,5.5; M3 -14.5,5.5; M4 -13.5,5.5; M5 -12.5,5.5; M6 -11.5,5.5; M7 -10.5,5.5; M8 -9.5,5.5; M9 -8.5,5.5; M10 -7.5,5.5; M11 -6.5,5.5; M12 -5.5,5.5; M13 -4.5,5.5; M14 -3.5,5.5; M15 -2.5,5.5; M16 -1.5,5.5; M17 -0.5,5.5; M18 0.5,5.5; M19 1.5,5.5; M20 2.5,5.5; M21 3.5,5.5; M22 4.5,5.5; M23 5.5,5.5; M24 6.5,5.5; M25 7.5,5.5; M26 8.5,5.5; M27 9.5,5.5; M28 10.5,5.5; M29 11.5,5.5; M30 12.5,5.5; M31 13.5,5.5; M32 14.5,5.5; M33 15.5,5.5; M34 16.5,5.5; N1 -16.5,4.5; N2 -15.5,4.5; N3 -14.5,4.5; N4 -13.5,4.5; N5 -12.5,4.5; N6 -11.5,4.5; N7 -10.5,4.5; N8 -9.5,4.5; N9 -8.5,4.5; N10 -7.5,4.5; N11 -6.5,4.5; N12 -5.5,4.5; N13 -4.5,4.5; N14 -3.5,4.5; N15 -2.5,4.5; N16 -1.5,4.5; N17 -0.5,4.5; N18 0.5,4.5; N19 1.5,4.5; N20 2.5,4.5; N21 3.5,4.5; N22 4.5,4.5; N23 5.5,4.5; N24 6.5,4.5; N25 7.5,4.5; N26 8.5,4.5; N27 9.5,4.5; N28 10.5,4.5; N29 11.5,4.5; N30 12.5,4.5; N31 13.5,4.5; N32 14.5,4.5; N33 15.5,4.5; N34 16.5,4.5; P1 -16.5,3.5; P2 -15.5,3.5; P3 -14.5,3.5; P4 -13.5,3.5; P5 -12.5,3.5; P6 -11.5,3.5; P7 -10.5,3.5; P8 -9.5,3.5; P9 -8.5,3.5; P10 -7.5,3.5; P11 -6.5,3.5; P12 -5.5,3.5; P13 -4.5,3.5; P14 -3.5,3.5; P15 -2.5,3.5; P16 -1.5,3.5; P17 -0.5,3.5; P18 0.5,3.5; P19 1.5,3.5; P20 2.5,3.5; P21 3.5,3.5; P22 4.5,3.5; P23 5.5,3.5; P24 6.5,3.5; P25 7.5,3.5; P26 8.5,3.5; P27 9.5,3.5; P28 10.5,3.5; P29 11.5,3.5; P30 12.5,3.5; P31 13.5,3.5; P32 14.5,3.5; P33 15.5,3.5; P34 16.5,3.5; R1 -16.5,2.5; R2 -15.5,2.5; R3 -14.5,2.5; R4 -13.5,2.5; R5 -12.5,2.5; R6 -11.5,2.5; R7 -10.5,2.5; R8 -9.5,2.5; R9 -8.5,2.5; R10 -7.5,2.5; R11 -6.5,2.5; R12 -5.5,2.5; R13 -4.5,2.5; R14 -3.5,2.5; R15 -2.5,2.5; R16 -1.5,2.5; R17 -0.5,2.5; R18 0.5,2.5; R19 1.5,2.5; R20 2.5,2.5; R21 3.5,2.5; R22 4.5,2.5; R23 5.5,2.5; R24 6.5,2.5; R25 7.5,2.5; R26 8.5,2.5; R27 9.5,2.5; R28 10.5,2.5; R29 11.5,2.5; R30 12.5,2.5; R31 13.5,2.5; R32 14.5,2.5; R33 15.5,2.5; R34 16.5,2.5; T1 -16.5,1.5; T2 -15.5,1.5; T3 -14.5,1.5; T4 -13.5,1.5; T5 -12.5,1.5; T6 -11.5,1.5; T7 -10.5,1.5; T8 -9.5,1.5; T9 -8.5,1.5; T10 -7.5,1.5; T11 -6.5,1.5; T12 -5.5,1.5; T13 -4.5,1.5; T14 -3.5,1.5; T15 -2.5,1.5; T16 -1.5,1.5; T17 -0.5,1.5; T18 0.5,1.5; T19 1.5,1.5; T20 2.5,1.5; T21 3.5,1.5; T22 4.5,1.5; T23 5.5,1.5; T24 6.5,1.5; T25 7.5,1.5; T26 8.5,1.5; T27 9.5,1.5; T28 10.5,1.5; T29 11.5,1.5; T30 12.5,1.5; T31 13.5,1.5; T32 14.5,1.5; T33 15.5,1.5; T34 16.5,1.5; U1 -16.5,0.5; U2 -15.5,0.5; U3 -14.5,0.5; U4 -13.5,0.5; U5 -12.5,0.5; U6 -11.5,0.5; U7 -10.5,0.5; U8 -9.5,0.5; U9 -8.5,0.5; U10 -7.5,0.5; U11 -6.5,0.5; U12 -5.5,0.5; U13 -4.5,0.5; U14 -3.5,0.5; U15 -2.5,0.5; U16 -1.5,0.5; U17 -0.5,0.5; U18 0.5,0.5; U19 1.5,0.5; U20 2.5,0.5; U21 3.5,0.5; U22 4.5,0.5; U23 5.5,0.5; U24 6.5,0.5; U25 7.5,0.5; U26 8.5,0.5; U27 9.5,0.5; U28 10.5,0.5; U29 11.5,0.5; U30 12.5,0.5; U31 13.5,0.5; U32 14.5,0.5; U33 15.5,0.5; U34 16.5,0.5; V1 -16.5,-0.5; V2 -15.5,-0.5; V3 -14.5,-0.5; V4 -13.5,-0.5; V5 -12.5,-0.5; V6 -11.5,-0.5; V7 -10.5,-0.5; V8 -9.5,-0.5; V9 -8.5,-0.5; V10 -7.5,-0.5; V11 -6.5,-0.5; V12 -5.5,-0.5; V13 -4.5,-0.5; V14 -3.5,-0.5; V15 -2.5,-0.5; V16 -1.5,-0.5; V17 -0.5,-0.5; V18 0.5,-0.5; V19 1.5,-0.5; V20 2.5,-0.5; V21 3.5,-0.5; V22 4.5,-0.5; V23 5.5,-0.5; V24 6.5,-0.5; V25 7.5,-0.5; V26 8.5,-0.5; V27 9.5,-0.5; V28 10.5,-0.5; V29 11.5,-0.5; V30 12.5,-0.5; V31 13.5,-0.5; V32 14.5,-0.5; V33 15.5,-0.5; V34 16.5,-0.5; W1 -16.5,-1.5; W2 -15.5,-1.5; W3 -14.5,-1.5; W4 -13.5,-1.5; W5 -12.5,-1.5; W6 -11.5,-1.5; W7 -10.5,-1.5; W8 -9.5,-1.5; W9 -8.5,-1.5; W10 -7.5,-1.5; W11 -6.5,-1.5; W12 -5.5,-1.5; W13 -4.5,-1.5; W14 -3.5,-1.5; W15 -2.5,-1.5; W16 -1.5,-1.5; W17 -0.5,-1.5; W18 0.5,-1.5; W19 1.5,-1.5; W20 2.5,-1.5; W21 3.5,-1.5; W22 4.5,-1.5; W23 5.5,-1.5; W24 6.5,-1.5; W25 7.5,-1.5; W26 8.5,-1.5; W27 9.5,-1.5; W28 10.5,-1.5; W29 11.5,-1.5; W30 12.5,-1.5; W31 13.5,-1.5; W32 14.5,-1.5; W33 15.5,-1.5; W34 16.5,-1.5; Y1 -16.5,-2.5; Y2 -15.5,-2.5; Y3 -14.5,-2.5; Y4 -13.5,-2.5; Y5 -12.5,-2.5; Y6 -11.5,-2.5; Y7 -10.5,-2.5; Y8 -9.5,-2.5; Y9 -8.5,-2.5; Y10 -7.5,-2.5; Y11 -6.5,-2.5; Y12 -5.5,-2.5; Y13 -4.5,-2.5; Y14 -3.5,-2.5; Y15 -2.5,-2.5; Y16 -1.5,-2.5; Y17 -0.5,-2.5; Y18 0.5,-2.5; Y19 1.5,-2.5; Y20 2.5,-2.5; Y21 3.5,-2.5; Y22 4.5,-2.5; Y23 5.5,-2.5; Y24 6.5,-2.5; Y25 7.5,-2.5; Y26 8.5,-2.5; Y27 9.5,-2.5; Y28 10.5,-2.5; Y29 11.5,-2.5; Y30 12.5,-2.5; Y31 13.5,-2.5; Y32 14.5,-2.5; Y33 15.5,-2.5; Y34 16.5,-2.5